# Altium schematic symbol library scannerMain_v4.5.SCHLIB: 58 symbols
Pins are listed as number, name and electrical type; pins without a type are passive.

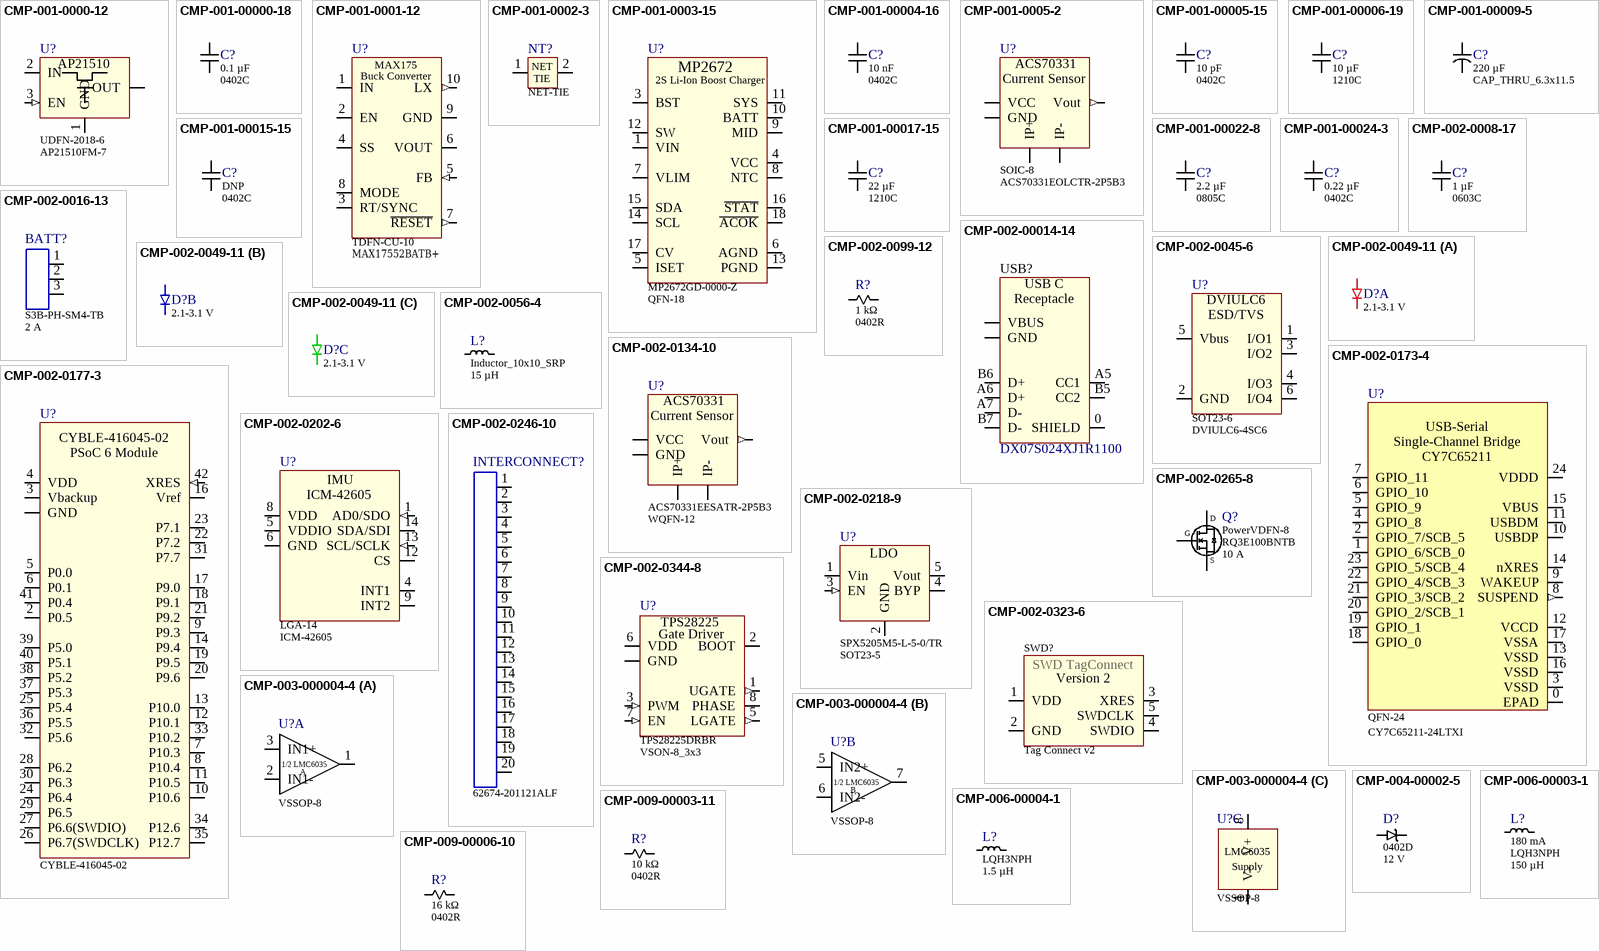
[diagram p0: symbols CMP-001-0000-12 to CMP-009-00006-10]

## CMP-001-0000-12
designator U?, comment Part Number: AP21510FM-7  (hidden comment: AP21510)
IC PWR SWITCH P-CHAN 1:1 6UDFN; Manufacturer: Diodes Incorporated; Manufacturer: Diodes; Value: Load Switch; Power Rating: 200 mA; Pin Count: 6; Room Code: *; Manufacturer Part Number: AP21510FM-7; Component Type: Power Supply
footprint UDFN-2018-6
pins: 0 GND (power), 1 GND (power), 2 IN (power), 3 EN (in), 5 OUT (power), 6 OUT (power)

## CMP-001-00000-18
designator C?, comment value 0.1 µF  (hidden comment: Capacitor - 0.1 µF, 0402)
CAP CER 0.1UF 25V X7R 0402; Part Number: GRM155R71E104KE14J; Manufacturer: Murata Electronics; Manufacturer: Murata; Tolerance: ±10%; Room Code: *; Power Rating: 25 V; Temperature Rating: X7R; Pin Count: 2; Manufacturer Part Number: GRM155R71E104KE14J; Component Type: Capacitors
footprint 0402C
pins: 1, 2

## CMP-001-0001-12
designator U?, comment Part Number: ‎MAX17552BATB+‎  (hidden comment: MAX175)
IC REG BUCK ADJ 100MA 10TDFN; Manufacturer: Analog Devices Inc./Maxim Integrated; Manufacturer: Maxim; Manufacturer Part Number: MAX17552ATB+T; Manufacturer Part Number: MAX17552BATB+; Power Rating: 300mA; Value: Buck Converter; Room Code: *; Pin Count: 10; Component Type: Power Supply
footprint TDFN-CU-10
pins: 0 GND (power), 1 IN (power), 2 EN (power), 3 RT/SYNC (power), 4 SS (power), 5 FB (in), 6 VOUT (power), 7 ~{RESET} (out), 8 MODE (power), 9 GND (power), 10 LX (out)

## CMP-001-0002-3
designator NT?, comment NET-TIE  (net tie, no BOM)
Use this to assign 2 labels to 1 net; Part Number: DNP; Value: DNP; Component Type: Miscellaneous
footprint NET-TIE_POWER
footprint NET-TIE_SIGNAL
pins: 1, 2
text: NET; TIE

## CMP-001-0003-15
designator U?, comment Part Number: MP2672GD-0000-Z  (hidden comment: MP2672)
IC BATT CHG LI-ION 2CELL 18QFN; Manufacturer: Monolithic Power Systems Inc.; Manufacturer: Monolithic Power Systems; Power Rating: 24 V; Value: Battery Charger; Current Rating: 2A; Pin Count: 18; Room Code: *; Manufacturer Part Number: MP2672GD-0000-Z; Component Type: Power Supply
footprint QFN-18
pins: 1 VIN (power), 2 SW (power), 3 BST (power), 4 VCC (power), 5 ISET (power), 6 AGND (power), 7 VLIM (power), 8 NTC, 9 MID, 10 BATT (power), 11 SYS, 12 SW (power), 13 PGND (power), 14 SCL (oc), 15 SDA (power), 16 ~{STAT}, 17 CV (power), 18 ~{ACOK} (oc)
text: 2S Li-Ion Boost Charger

## CMP-001-00004-16
designator C?, comment value 10 nF  (hidden comment: Capacitor - 10 nF, 16 V)
CAP CER 10000PF 16V X7R 0402; Part Number: CL05B103KO5NNNC; Manufacturer: Samsung Electro-Mechanics; Manufacturer: Walsin Technologies; Manufacturer Part Number: 0402B103K160CT; Manufacturer: Samsung; Tolerance: ±10%; Temperature Rating: X7R; Power Rating: 16 V; Room Code: *; Pin Count: 2; Manufacturer Part Number: CL05B103KO5NNNC; Component Type: Capacitors
footprint 0402C
pins: 1, 2

## CMP-001-0005-2
designator U?, comment Part Number: ACS70331EOLCTR-2P5B3  (hidden comment: ACS70331, SOIC-8)
HIGH SENSITIVITY, 1 MHZ, GMR-BAS; Manufacturer: Allegro MicroSystems; Value: Current Sensor; Power Rating: 4.5 V; Pin Count: 8; Room Code: *; Manufacturer Part Number: ACS70331EOLCTR-2P5B3; Component Type: Sensors
footprint SOIC-8
pins: 1 IP+, 2 IP+, 3 IP-, 4 IP-, 5 GND (power), 7 Vout (out), 8 VCC (power)
text: ACS70331

## CMP-001-00005-15
designator C?, comment value 10 pF  (hidden comment: Capacitor - 10 pF, 0402)
CAP CER 10PF 50V C0G/NP0 0402; Manufacturer: Samsung Electro-Mechanics; Part Number: CL05C100JB5NNNC; Manufacturer: Samsung; Temperature Rating: C0G, NP0; Tolerance: ±5%; Room Code: *; Pin Count: 2; Power Rating: 50 V; Manufacturer Part Number: CL05C100JB5NNNC; Component Type: Capacitors
footprint 0402C
pins: 1, 2

## CMP-001-00006-19
designator C?, comment value 10 µF  (hidden comment: Capacitor - 10 µF, 1210)
CAP CER 10UF 25V X7R 1210; Manufacturer: Murata Electronics; Part Number: GCM32ER71E106KA57K; Manufacturer: Yageo; Manufacturer Part Number: CC1210KFX7R8BB106; Manufacturer: Murata; Tolerance: ±10%; Pin Count: 2; Temperature Rating: X7R; Power Rating: 25 V; Room Code: *; Manufacturer Part Number: GCM32ER71E106KA57K; Component Type: Capacitors
footprint 1210C
pins: 1, 2

## CMP-001-00009-5
designator C?, comment value 220 µF  (hidden comment: Capacitor - 220 µF, 25 V)
CAP ALUM 220UF 20% 25V RADIAL; Manufacturer: Würth Elektronik; Part Number: 860010473011; Manufacturer: Wurth Electronics; Tolerance: ±20%; Power Rating: 25 V; Pin Count: 2; Room Code: *; Manufacturer Part Number: 860010473011; Component Type: Capacitors
footprint CAP_THRU_6.3x11.5
pins: +, -

## CMP-001-00015-15
designator C?, comment value DNP  (hidden comment: Capacitor - DNP)
DNP; Room Code: *; Pin Count: 2; Part Number: DNP; Component Type: Capacitors
footprint 0402C
footprint 0603C
footprint 0805C
pins: 1, 2

## CMP-001-00017-15
designator C?, comment value 22 µF  (hidden comment: Capacitor - 22 µF, 1210)
CAP CER 22UF 25V X7R 1210; Part Number: GRM32ER71E226KE15L; Manufacturer: Murata Electronics; Manufacturer: Yageo; Manufacturer Part Number: CC1210KKX7R8BB226; Manufacturer: Murata; Tolerance: ±10%; Power Rating: 25 V; Temperature Rating: X7R; Room Code: *; Pin Count: 2; Manufacturer Part Number: GRM32ER71E226KE15L; Component Type: Capacitors
footprint 1210C
pins: 1, 2

## CMP-001-00022-8
designator C?, comment value 2.2 µF  (hidden comment: Capacitor - 2.2 µF, 25 V)
CAP CER 2.2UF 25V X7R 0805; Manufacturer: Murata Electronics; Part Number: GRM21BR71E225KE11L; Manufacturer: Murata; Manufacturer: Yageo; Manufacturer Part Number: CC0805KKX7R8BB225; Tolerance: ±10%; Power Rating: 25 V; Pin Count: 2; Temperature Rating: X7R; Room Code: *; Manufacturer Part Number: GRM21BR71E225KE11L; Component Type: Capacitors
footprint 0805C
pins: 1, 2

## CMP-001-00024-3
designator C?, comment value 0.22 µF  (hidden comment: Capacitor - 0.22 µF, 10 V)
CAP CER 0.22UF 10V X7R 0402; Part Number: GRM155R71A224KE01D; Manufacturer: Murata Electronics; Manufacturer: Murata; Manufacturer: Yageo; Manufacturer Part Number: CC0402KPX7R6BB224; Tolerance: ±10%; Power Rating: 10 V; Pin Count: 2; Temperature Rating: X7R; Room Code: *; Manufacturer Part Number: GRM155R71A224KE01D; Component Type: Capacitors
footprint 0402C
pins: 1, 2

## CMP-002-0008-17
designator C?, comment value 1 µF  (hidden comment: Capacitor - 1 µF, 0603)
CAP CER 1UF 16V X7R 0603; Manufacturer: Murata Electronics; Part Number: GCM188R71C105KA64D; Manufacturer: Yageo; Manufacturer Part Number: CC0603KRX7R7BB105; Manufacturer: Murata; Tolerance: ±10%; Power Rating: 16 V; Temperature Rating: X7R; Room Code: *; Pin Count: 2; Manufacturer Part Number: GCM188R71C105KA64D; Component Type: Capacitors
footprint 0603C
pins: 1, 2

## CMP-002-00014-14
designator USB?, comment Part Number: DX07S024XJ1R1100  (hidden comment: USB Type-C DX07 Receptacle)
CONN RCP USB3.1 TYPEC 24P SMD RA; Manufacturer: JAE Electronics; Value: USBC Receptacle; Current Rating: 5 A; Pin Count: 24; Power Rating: 5 A; Room Code: *; Manufacturer Part Number: DX07S024XJ1R1100; Component Type: Connectors
footprint USB Type-C DX07 Receptacle
pins: 0 SHIELD, 0 CASE, A1 GND, A4 VBUS, A5 CC1, A6 D+, A7 D-, A9 VBUS, A12 GND, B1 GND, B4 VBUS, B5 CC2, B6 D+, B7 D-, B9 VBUS, B12 GND
text: USB C; Receptacle

## CMP-002-0016-13
designator BATT?, comment Power Rating: 2 A  (hidden comment: S3B-PH)
CONN HEADER SMD R/A 3POS 2MM; Manufacturer: JST Sales America Inc.; Part Number: S3B-PH-SM4-TB(LF)(SN); Manufacturer: JST; Value: JST PH-3; Pin Count: 3; Room Code: *; Manufacturer Part Number: S3B-PH-SM4-TB(LF)(SN); Component Type: Connectors
footprint S3B-PH-SM4-TB
pins: 1, 2, 3

## CMP-002-0045-6
designator U?, comment Part Number: DVIULC6-4SC6  (hidden comment: DVIULC6)
TVS Diodes; Manufacturer: STMicroelectronics; Manufacturer: Alpha & Omega Semiconductor; Manufacturer Part Number: AOZ8105CI; Power Rating: 17 V; Pin Count: 6; Value: TVS Diode; Room Code: *; Manufacturer Part Number: DVIULC6-4SC6; Component Type: Interface
footprint SOT23-6
pins: 1 I/O1, 2 GND (power), 3 I/O2, 4 I/O3, 5 Vbus (power), 6 I/O4
text: ESD/TVS

## CMP-002-0049-11
designator D?, comment Power Rating: 2.1-3.1 V  (hidden comment: LED RGB)
LED RGB DIFFUSED PICOLED SMD; Part Number: 18-038BT/BDGAR6S1-CC01/10T; Manufacturer: Everlight Electronics Co Ltd; Manufacturer: Everlight; Value: RGB; Pin Count: 4; Room Code: *; Manufacturer Part Number: 18-038BT/BDGAR6S1-CC01/10T; Component Type: LED
footprint 0404LED
part A pins: Anode, CathodeR
part B pins: Anode, CathodeB
part C pins: Anode, CathodeG

## CMP-002-0056-4
designator L?, comment value 15 µH  (hidden comment: Inductor - Power Filter)
FIXED IND 15UH 6.25A 45 MOHM SMD; Manufacturer: Bourns Inc.; Part Number: SRP1038A-150M; Manufacturer: Bourns; Tolerance: ±20%; Room Code: *; Pin Count: 2; Power Rating: 6.25 A; Manufacturer Part Number: SRP1038A-150M; Component Type: Inductors
footprint Inductor_10x10_SRP
pins: 1, 2

## CMP-002-0099-12
designator R?, comment value 1 kΩ  (hidden comment: Resistor - 1 kΩ)
RES 1K OHM 1% 1/16W 0402; Part Number: RMCF0402FT1K00; Manufacturer: Stackpole Electronics Inc; Manufacturer: Stackpole Electronics; Tolerance: ±1%; Pin Count: 2; Room Code: *; Power Rating: 1/16 W; Manufacturer Part Number: RMCF0402FT1K00; Component Type: Resistors
footprint 0402R
pins: 1, 2

## CMP-002-0134-10
designator U?, comment Part Number: ACS70331EESATR-2P5B3  (hidden comment: ACS70331)
HIGH SENSITIVITY, 1 MHZ, GMR-BAS; Manufacturer: Allegro MicroSystems; Value: Current Sensor; Power Rating: 4.5 V; Room Code: *; Pin Count: 9; Manufacturer Part Number: ACS70331EESATR-2P5B3; Component Type: Sensors
footprint WQFN-12
pins: 1 IP+, 3 IP-, 5 GND (power), 6 GND, 8 GND, 9 GND, 10 Vout (out), 11 GND, 12 VCC (power)

## CMP-002-0173-4
designator U?, comment Part Number: CY7C65211-24LTXI  (hidden comment: CY7C65211)
USB-Serial Bridge; Manufacturer: Cypress Semiconductor Corp; Manufacturer: Cypress; Value: USB to UART Bridge; Power Rating: 5 V; Pin Count: 25; Manufacturer Part Number: CY7C65211-24LTXI; Component Type: Interface
footprint QFN-24
pins: 0 EPAD (power), 1 GPIO_6/SCB_0 (io), 2 GPIO_7/SCB_5 (io), 3 VSSD (power), 4 GPIO_8 (io), 5 GPIO_9 (io), 6 GPIO_10 (io), 7 GPIO_11 (io), 8 SUSPEND (out), 9 WAKEUP, 10 USBDP (io) "USB Data Signal Plus", 11 USBDM (io) "USB Data Signal Minus", 12 VCCD (power) "Decouple to ground with 1uF cap or connect to 1.8V supply", 13 VSSD (power), 14 nXRES "Chip reset, active low", 15 VBUS (power), 16 VSSD (power), 17 VSSA (power), 18 GPIO_0 (io), 19 GPIO_1 (io), 20 GPIO_2/SCB_1 (io), 21 GPIO_3/SCB_2 (io), 22 GPIO_4/SCB_3 (io), 23 GPIO_5/SCB_4 (io), 24 VDDD (power)
text: USB-Serial / Single-Channel Bridge / CY7C65211

## CMP-002-0177-3
designator U?, comment EZ-BLE PSoC 6  (value not drawn)
RX TXRX MODULE BT TRC ANT SMD; Part Number: CYBLE-416045-02; Manufacturer: Cypress Semiconductor Corp; Manufacturer: Cypress; Power Rating: 3.6 V; Pin Count: 43; Value: EZ-BLE PSoC6; Room Code: *; Manufacturer Part Number: CYBLE-416045-02; Component Type: Wireless
footprint CYBLE-416045-02
pins: 1 GND (power), 2 P0.5 (io), 3 Vbackup (power), 4 VDD (power), 5 P0.0 (io), 6 P0.1 (io), 7 P10.3 (io), 8 P10.4 (io), 9 P9.3 (io), 10 P10.6 (io), 11 P10.5 (io), 12 P10.1 (io), 13 P10.0 (io), 14 P9.4 (io), 15 GND (power), 16 Vref, 17 P9.0 (io), 18 P9.1 (io), 19 P9.5 (io), 20 P9.6 (io), 21 P9.2 (io), 22 P7.2 (io), 23 P7.1 (io), 24 P6.4 (io), 25 P5.4 (io), 26 P6.7(SWDCLK) (io), 27 P6.6(SWDIO) (io), 28 P6.2 (io), 29 P6.5 (io), 30 P6.3 (io), 31 P7.7 (io), 32 P5.6 (io), 33 P10.2 (io), 34 P12.6 (io), 35 P12.7 (io), 36 P5.5 (io), 37 P5.3 (io), 38 P5.2 (io), 39 P5.0 (io), 40 P5.1 (io), 41 P0.4 (io), 42 XRES (in), 43 GND (power)
text: PSoC 6 Module

## CMP-002-0202-6
designator U?, comment ICM-42605
IMU ACCEL/GYRO/TEMP I2C/SPI LGA; Manufacturer: TDK InvenSense; Manufacturer: TDK; Power Rating: 3.6V; Room Code: *; Pin Count: 14; Value: IMU; i2cAddress: *; Part Number: ICM-42605; Current Rating: *; Manufacturer Part Number: ICM-42605; Component Type: Integrated Circuits
footprint LGA-14
pins: 1 AD0/SDO (in), 2 RESV, 3 RESV, 4 INT1 (io), 5 VDDIO (power), 6 GND (power), 7 RESV (power), 8 VDD (power), 9 INT2 (io), 10 RESV, 11 RESV, 12 CS, 13 SCL/SCLK (in), 14 SDA/SDI (io)

## CMP-002-0218-9
designator U?, comment Part Number: SPX5205M5-L-5-0/TR  (hidden comment: SPX5205M5-L-5)
LDO Voltage Regulators 150mA LOW NOISE LDO; Manufacturer: MaxLinear; Value: 5V; Pin Count: 4; Room Code: *; Power Rating: 150 mA; Manufacturer Part Number: SPX5205M5-L-5-0/TR; Component Type: Power Supplies
footprint SOT23-5
pins: 1 Vin (power), 2 GND (power), 3 EN (in), 4 BYP (power), 5 Vout (power)
text: LDO

## CMP-002-0246-10
designator INTERCONNECT?, comment Part Number: 62674-201121ALF  (hidden comment: 62674-20)
CONN FFC VERT 20POS 0.50MM SMD; Manufacturer: Amphenol ICC (FCI); Manufacturer: Amphenol ICC; Value: Vertical ZIF 20 pin; Power Rating: 0.5 A; Pin Count: 20; Room Code: *; Manufacturer Part Number: 62674-201121ALF; Component Type: Connectors
footprint Vertical ZIF 20 pin 62674
pins: 1, 2, 3, 4, 5, 6, 7, 8, 9, 10, 11, 12, 13, 14, 15, 16, 17, 18, 19, 20

## CMP-002-0265-8
designator Q?, comment Part Number: RQ3E100BNTB  I_d: 10 A  (hidden comment: MOSFET-N, 30V, 10A)
MOSFET N-CH 30V 10A 8HSMT; Manufacturer: Rohm Semiconductor; Manufacturer: Rohm; Rds_on: 10.4 mΩ @ 10 A, 10 V; Power Rating: 2 W; Pin Count: 3; Room Code: *; Vds: 30 V; Value: MOSFET-N; Manufacturer Part Number: RQ3E100BNTB; Component Type: Transistors
footprint PowerVDFN-8
pins: 1 G, 2 S, 3 D

## CMP-002-0323-6
designator SWD?, comment Tag Connect v2  (no BOM)
DNP; Part Number: TC2030-IDC-NL; Value: DNP; Pin Count: 5; Component Type: Test Points
footprint Tag_connect (TC2030-IDC-NL)
pins: 1 VDD, 2 GND, 3 XRES, 4 SWDIO, 5 SWDCLK
text: SWD TagConnect; Version 2

## CMP-002-0344-8
designator U?, comment Part Number: TPS28225DRBR  (hidden comment: TPS28225)
IC GATE DRVR HALF-BRIDGE 8SON; Manufacturer: Texas Instruments; Current Rating: 4 A; Power Rating: 8.5 V; Value: Gate Driver; Pin Count: 9; Room Code: *; Component Type: Standard; Manufacturer Part Number: TPS28225DRBR; Component Type: Data Converters
footprint VSON-8_3x3
pins: 0 EPAD (power), 1 UGATE (out), 2 BOOT, 3 PWM (in), 4 GND (power), 5 LGATE (out), 6 VDD (power), 7 EN (in), 8 PHASE

## CMP-003-000004-4
designator U?, comment LMC6035  (value not drawn)
IC CMOS 2 CIRCUIT 8VSSOP; Manufacturer: Texas Instruments; Part Number: LMC6035IMMX/NOPB; Manufacturer: TI National Semiconductor; Power Rating: 15.5V; Value: 2x Op Amp; Room Code: *; Pin Count: 8; Manufacturer Part Number: LMC6035IMMX/NOPB; Component Type: Amplifiers
footprint VSSOP-8
part A pins: 1 OUT1, 2 IN1-, 3 IN1+
part B pins: 5 IN2+, 6 IN2-, 7 OUT2
part C pins: 4 V- (power), 8 V+ (power)
part A text: 1/2 LMC6035; A
part B text: 1/2 LMC6035; B
part C text: Supply

## CMP-004-00002-5
designator D?, comment Voltage Rating: 12 V  (hidden comment: Zener - 12 V)
DIODE ZENER 12V 250MW 2DFN; Manufacturer: Diodes Incorporated; Part Number: BZT52C12LP-7; Manufacturer: Diodes; value: Zener, 12 V; Tolerance: ±5.39%; Pin Count: 2; Room Code: *; Power Rating: 250 mW; Manufacturer Part Number: BZT52C12LP-7; Component Type: Diodes
footprint 0402D
pins: Anode, Cathode

## CMP-006-00003-1
designator L?, comment value 150 µH  Power Rating: 180 mA  (hidden comment: Inductor - 150 µH)
FIXED IND 150UH 180MA 5.88OHM SM; Manufacturer: Murata Electronics; Part Number: LQH3NPN151MGRL; Manufacturer: Murata; Tolerance: ±20%; Pin Count: 2; Room Code: *; Manufacturer Part Number: LQH3NPN151MGRL; Component Type: Inductors
footprint LQH3NPH
pins: 1, 2

## CMP-006-00004-1
designator L?, comment value 1.5 µH  (hidden comment: Inductor - 1.5 μH)
INDUCTORS FOR POWER CIRCUITS, WO; Manufacturer: TDK Corporation; Part Number: VLS3012HBX-1R5M-N; Manufacturer: TDK; Power Rating: 3.77 A; Tolerance: ±20%; Pin Count: 2; Room Code: *; Manufacturer Part Number: VLS3012HBX-1R5M-N; Component Type: Inductors
footprint LQH3NPH
pins: 1, 2

## CMP-009-00003-11
designator R?, comment value 10 kΩ  (hidden comment: Resistor - 10 kΩ)
RES 10K OHM 1% 1/16W 0402; Manufacturer: Stackpole Electronics Inc; Part Number: RMCF0402FT10K0; Manufacturer: Stackpole Electronics; Manufacturer: Yageo; Manufacturer Part Number: AF0402FR-0710KL; Tolerance: ±1%; Power Rating: 1/16 W; Room Code: *; Pin Count: 2; Manufacturer Part Number: RMCF0402FT10K0; Component Type: Resistors
footprint 0402R
pins: 1, 2

## CMP-009-00006-10
designator R?, comment value 16 kΩ  (hidden comment: Resistor - 16 kΩ)
RES 16K OHM 1% 1/16W 0402; Part Number: RMCF0402FT16K0; Manufacturer: Stackpole Electronics Inc; Manufacturer: Stackpole Electronics; Manufacturer: Walsin Technologies; Manufacturer Part Number: WR04X1602FTL; Room Code: *; Pin Count: 2; Power Rating: 1/16 W; Tolerance: ±1%; Manufacturer Part Number: RMCF0402FT16K0; Component Type: Resistors
footprint 0402R
pins: 1, 2

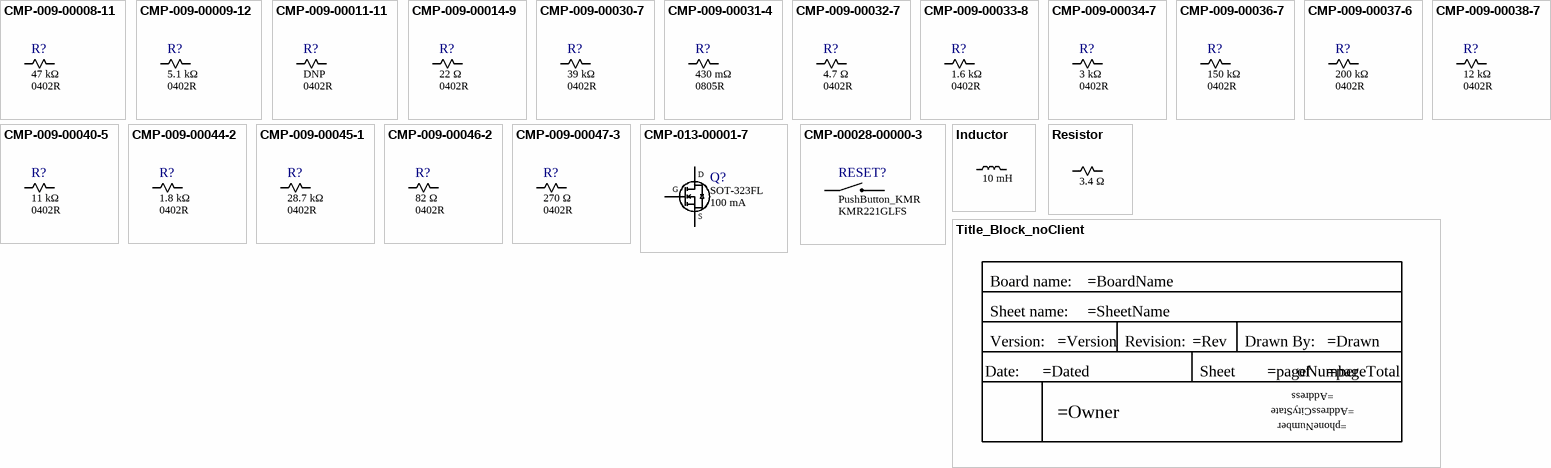
[diagram p1: symbols CMP-009-00008-11 to Title_Block_noClient]

## CMP-009-00008-11
designator R?, comment value 47 kΩ  (hidden comment: Resistor - 47 kΩ)
RES 47K OHM 1% 1/16W 0402; Part Number: RMCF0402FT47K0; Manufacturer: Stackpole Electronics Inc; Manufacturer: Yageo; Manufacturer Part Number: RC0402FR-0747KL; Manufacturer: Stackpole Electronics; Tolerance: ±1%; Power Rating: 1/16 W; Room Code: *; Pin Count: 2; Manufacturer Part Number: RMCF0402FT47K0; Component Type: Resistors
footprint 0402R
pins: 1, 2

## CMP-009-00009-12
designator R?, comment value 5.1 kΩ  (hidden comment: Resistor - 5.1 kΩ)
RES 5.1K OHM 1% 1/16W 0402; Manufacturer: Stackpole Electronics Inc; Part Number: RMCF0402FT5K10; Manufacturer: Walsin Technologies; Manufacturer Part Number: WR04X5101FTL; Manufacturer: Stackpole Electronics; Power Rating: 1/16 W; Room Code: *; Pin Count: 2; Tolerance: ±1%; Manufacturer Part Number: RMCF0402FT5K10; Component Type: Resistors
footprint 0402R
pins: 1, 2

## CMP-009-00011-11
designator R?, comment value DNP  (hidden comment: Resistor - DNP)
DNP; Room Code: *; Part Number: DNP; Pin Count: 2; Component Type: Resistors
footprint 0402R
pins: 1, 2

## CMP-009-00014-9
designator R?, comment value 22 Ω  (hidden comment: Resistor - 22 Ω)
RES SMD 22 OHM 1% 1/10W 0402; Manufacturer: Panasonic Electronic Components; Part Number: ERJ-2RKF22R0X; Manufacturer: Panasonic; Tolerance: ±1%; Power Rating: 1/10 W; Pin Count: 2; Room Code: *; Manufacturer Part Number: ERJ-2RKF22R0X; Component Type: Resistors
footprint 0402R
pins: 1, 2

## CMP-009-00030-7
designator R?, comment value 39 kΩ  (hidden comment: Resistor - 39 kΩ)
RES 39K OHM 1% 1/16W 0402; Part Number: RMCF0402FT39K0; Manufacturer: Stackpole Electronics Inc; Manufacturer: Stackpole Electronics; Tolerance: ±1%; Pin Count: 2; Room Code: *; Power Rating: 1/16 W; Manufacturer Part Number: RMCF0402FT39K0; Component Type: Resistors
footprint 0402R
pins: 1, 2

## CMP-009-00031-4
designator R?, comment value 430 mΩ  (hidden comment: Resistor - 430 mΩ)
RES 0.43 OHM 1% 1/3W 0805; Part Number: RL1220S-R43-F; Manufacturer: Susumu; Tolerance: ±1%; Pin Count: 2; Room Code: *; Power Rating: 1/3 W; Manufacturer Part Number: RL1220S-R43-F; Component Type: Resistors
footprint 0805R
pins: 1, 2

## CMP-009-00032-7
designator R?, comment value 4.7 Ω  (hidden comment: Resistor - 4.7 Ω)
RES 4.7 OHM 1% 1/16W 0402; Manufacturer: Stackpole Electronics Inc; Part Number: RMCF0402FT4R70; Manufacturer: Yageo; Manufacturer Part Number: RC0402FR-074R7L; Manufacturer: Stackpole Electronics; Tolerance: ±1%; Power Rating: 1/16 W; Room Code: *; Pin Count: 2; Manufacturer Part Number: RMCF0402FT4R70; Component Type: Resistors
footprint 0402R
pins: 1, 2

## CMP-009-00033-8
designator R?, comment value 1.6 kΩ  (hidden comment: Resistor - 1.6 kΩ)
RES 1.6K OHM 1% 1/16W 0402; Manufacturer: Stackpole Electronics Inc; Part Number: RMCF0402FT1K60; Manufacturer: Stackpole Electronics; Manufacturer: Yageo; Manufacturer Part Number: RC0402FR-071K6L; Tolerance: ±1%; Room Code: *; Power Rating: 1/16 W; Pin Count: 2; Manufacturer Part Number: RMCF0402FT1K60; Component Type: Resistors
footprint 0402R
pins: 1, 2

## CMP-009-00034-7
designator R?, comment value 3 kΩ  (hidden comment: Resistor - 3 kΩ)
RES 3K OHM 1% 1/16W 0402; Manufacturer: Stackpole Electronics Inc; Part Number: RMCF0402FT3K00; Manufacturer: Stackpole Electronics; Power Rating: 1/16 W; Tolerance: ±1%; Room Code: *; Pin Count: 2; Manufacturer Part Number: RMCF0402FT3K00; Component Type: Resistors
footprint 0402R
pins: 1, 2

## CMP-009-00036-7
designator R?, comment value 150 kΩ  (hidden comment: Resistor - 150 kΩ)
RES 150K OHM 1% 1/16W 0402; Manufacturer: Stackpole Electronics Inc; Part Number: RMCF0402FT150K; Manufacturer: Stackpole Electronics; Manufacturer: Walsin Technologies; Manufacturer Part Number: WR04X1503FTL; Power Rating: 1/16 W; Room Code: *; Pin Count: 2; Tolerance: ±1%; Manufacturer Part Number: RMCF0402FT150K; Component Type: Resistors
footprint 0402R
pins: 1, 2

## CMP-009-00037-6
designator R?, comment value 200 kΩ  (hidden comment: Resistor - 200 kΩ)
RES 200K OHM 1% 1/16W 0402; Part Number: RC0402FR-07200KL; Manufacturer: YAGEO; Pin Count: 2; Power Rating: 1/16 W; Tolerance: ±1%; Room Code: *; Manufacturer: Yageo; Manufacturer Part Number: RC0402FR-07200KL; Component Type: Resistors
footprint 0402R
pins: 1, 2

## CMP-009-00038-7
designator R?, comment value 12 kΩ  (hidden comment: Resistor - 12 kΩ)
RES 12K OHM 1% 1/16W 0402; Part Number: RMCF0402FT12K0; Manufacturer: Stackpole Electronics Inc; Manufacturer: Stackpole Electronics; Manufacturer: Yageo; Manufacturer Part Number: RC0402FR-0712KL; Tolerance: ±1%; Power Rating: 1/16 W; Room Code: *; Pin Count: 2; Manufacturer Part Number: RMCF0402FT12K0; Component Type: Resistors
footprint 0402R
pins: 1, 2

## CMP-009-00040-5
designator R?, comment value 11 kΩ  (hidden comment: Resistor - 11 kΩ)
RES 11K OHM 1% 1/16W 0402; Part Number: RMCF0402FT11K0; Manufacturer: Stackpole Electronics Inc; Manufacturer: Walsin Technologies; Manufacturer Part Number: WR04X1102FTL; Manufacturer: Stackpole Electronics; Power Rating: 1/16 W; Pin Count: 2; Tolerance: ±1%; Room Code: *; Manufacturer Part Number: RMCF0402FT11K0; Component Type: Resistors
footprint 0402R
pins: 1, 2

## CMP-009-00044-2
designator R?, comment value 1.8 kΩ  (hidden comment: Resistor - 1.8 kΩ)
RES 1.8K OHM 1% 1/16W 0402; Manufacturer: YAGEO; Part Number: RC0402FR-071K8L; Manufacturer: Walsin Technologies; Manufacturer Part Number: WR04X1801FTL; Room Code: *; Power Rating: 1/16 W; Pin Count: 2; Tolerance: ±1%; Manufacturer: Yageo; Manufacturer Part Number: RC0402FR-071K8L; Component Type: Resistors
footprint 0402R
pins: 1, 2

## CMP-009-00045-1
designator R?, comment value 28.7 kΩ  (hidden comment: Resistor - 28.7 kΩ)
RES SMD 28.7K OHM 1% 1/10W 0402; Manufacturer: Panasonic Electronic Components; Part Number: ERJ-2RKF2872X; Manufacturer: Panasonic; Room Code: *; Pin Count: 2; Power Rating: 1/10 W; Tolerance: ±1%; Manufacturer Part Number: ERJ-2RKF2872X; Component Type: Resistors
footprint 0402R
pins: 1, 2

## CMP-009-00046-2
designator R?, comment value 82 Ω  (hidden comment: Resistor - 82 Ω)
RES 82 OHM 1% 1/16W 0402; Part Number: RMCF0402FT82R0; Manufacturer: Stackpole Electronics Inc; Manufacturer: Walsin Technologies; Manufacturer Part Number: WR04X82R0FTL; Manufacturer: Stackpole Electronics; Power Rating: 1/16 W; Room Code: *; Pin Count: 2; Tolerance: ±1%; Manufacturer Part Number: RMCF0402FT82R0; Component Type: Resistors
footprint 0402R
pins: 1, 2

## CMP-009-00047-3
designator R?, comment value 270 Ω  (hidden comment: Resistor - 270 Ω)
RES 270 OHM 1% 1/16W 0402; Manufacturer: Stackpole Electronics Inc; Part Number: RMCF0402FT270R; Manufacturer: Stackpole Electronics; Manufacturer: Walsin Technologies; Manufacturer Part Number: WR04X2700FTL; Tolerance: ±1%; Power Rating: 1/16 W; Pin Count: 2; Room Code: *; Manufacturer Part Number: RMCF0402FT270R; Component Type: Resistors
footprint 0402R
pins: 1, 2

## CMP-013-00001-7
designator Q?, comment I_d: 100 mA  (hidden comment: MOSFET-N, 20V, 100mA)
MOSFET N-CH 20V 100MA UMT3F; Manufacturer: Rohm Semiconductor; Part Number: RU1C001UNTCL; Manufacturer: Rohm; Rds_on: 3.5 Ω @ 100 mA, 4.5 V; Power Rating: 150 mW; Pin Count: 3; Vds: 20 V; Value: MOSFET-N; Room Code: *; Manufacturer Part Number: RU1C001UNTCL; Component Type: Transistors
footprint SOT-323FL
pins: 1 G, 2 S, 3 D

## CMP-00028-00000-3
designator RESET?, comment Part Number: KMR221GLFS  (hidden comment: Top Actuated Button)
SWITCH TACTILE SPST-NO 0.05A 32V; Manufacturer: C&K; Manufacturer: ITT C&K; Power Rating: 32 V; Pin Count: 4; Room Code: *; Value: Top Actuated Button; Manufacturer Part Number: KMR221GLFS; Component Type: Mechanical
footprint PushButton_KMR (KMR221GLFS)
pins: 1, 2

## Inductor
designator MotorL?  value 10 mH  (hidden comment: Inductor)  (graphical)
Passive Inductor; roomCode: iSense; Current Rating: *; DCR: *; PartNumber: *
footprint 0402
footprint 0603
footprint Inductor_wurth_1mH
footprint 2512
footprint Wurth_Cube (WE-HCC SMD High Current Cube Inductor)
footprint Wurth_4.1x4.1 (74438356010)
footprint Indcutor_wurth7mm
footprint wurth_8070
footprint M02x1_100mill_female
footprint TerminalBlock_1x2 (OnShore)
footprint Coilcraft_XFL4020
footprint Inductor_8.5x8.0
footprint Inductor_10.7x10
footprint 1210
footprint inductor_13.5x12.6
footprint Inductor_13.5x12.5
footprint inductor_8x8
footprint inductor_10.8x10.16
footprint inductor_srn6045
footprint inductor_srr7045
footprint 1008_L
footprint Inductor_10x10_SRP
footprint inductor_10x10.4_ETQP5M
footprint Inductor_6.6x6.4 (SRP6060FA)
footprint inductor_worth_12.1x11.4 (7443320820)
footprint inductor_SRU1048
footprint Inductor_6x6
footprint inductor_RLS126
footprint 0805L
footprint Wurth_10.6x10.6 (WE-HCC SMD High Current Cube Inductor)
pins: 1, 2

## Resistor
designator MotorR?  value 3.4 Ω  (hidden comment: Resistor)  (graphical)
Resistors; Power Rating: 60 W; Tolerance: ±5%; roomCode: iSense; HeaderPartNumber: *
footprint 0603R
footprint 0201R
footprint 1206R
footprint 1210R (Footprint not found)
footprint Resistor_throughHole_small
footprint ResistorThroughHole
footprint resist_slimmox_10203 (Bleed Resistor)
footprint M02x1_100mill_female
footprint 2512_resistor
footprint 0402R
footprint 0805R (Footprint not found)
footprint 4020R
footprint HSA10_Resistor (16 W Sense Resistor)
pins: 1, 2

## Title_Block_noClient
designator ??  (value not drawn)  (graphical)
Schematic title block; Sheet Name: =SheetName; Doc Owner: =Owner; Board Version: =Version; Total Page: =pageTotal; Revision: =Rev; Page Number: =pageNumber; Date Modified: =Dated; Drawn By: =Drawn; Board name: =BoardName
text: Board name:; Sheet name:; Version:; Revision:; Drawn By:; Date:; Sheet; of